# EAGLE library part 93C46 (library X893)
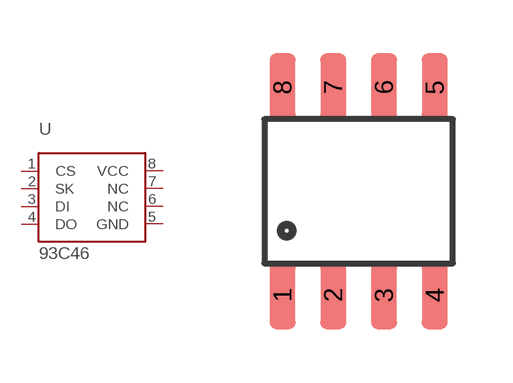
[diagram p81: symbol with the pads of SO08; footprint SO08]

Designator prefix U

## 93C46  [SO08]
1  CS  in
2  SK  in
3  DI  in
4  DO  hiz
5  GND  sup
6  NC  nc
7  NC  nc
8  VCC

## Footprint SO08 (pad centres in mm)
Small Outline Package Fits JEDEC packages (narrow SOIC-8)
smd 0.65 x 1.7: 1 -1.905,-2.6; 2 -0.635,-2.6; 3 0.635,-2.6; 4 1.905,-2.6; 5 1.905,2.6; 6 0.635,2.6; 7 -0.635,2.6; 8 -1.905,2.6